# Altium schematic symbol library Chip Resistor.SchLib: 5 symbols
Pins are listed as number, name and electrical type; pins without a type are passive.

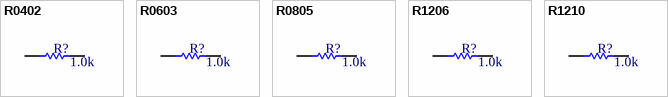
[diagram p0: symbols R0402 to R1210]

## R0402
designator R?  value 1.0k  (hidden comment: R0402)
0402 Chip Resistor - Standard; ComponentLink1URL: *
simulation model RES (Resistor)
signal-integrity model R0402
footprint 0402RES (Chip Resistor; Body 1.0 x 0.5 mm (LxW typ))
pins: 1, 2

## R0603
designator R?  value 1.0k  (hidden comment: R0603)
0603 Chip Resistor - Standard
simulation model RES (Resistor)
signal-integrity model R0603
footprint 0603RES (Chip Resistor; Body 1.6 x 0.8 mm (LxW typ))
pins: 1, 2

## R0805
designator R?  value 1.0k  (hidden comment: R0805)
0805 Chip Resistor - Standard
simulation model RES (Resistor)
signal-integrity model R0805
footprint 0805RES (Chip Resistor Body 2.0 x 1.2 mm (LxW typ))
pins: 1, 2

## R1206
designator R?  value 1.0k  (hidden comment: R1206)
1206 Chip Resistor - Standard
simulation model RES (Resistor)
signal-integrity model R1206
footprint 1206RES (Chip Resistor; Body 3.2 x 1.6 mm (LxW typ))
pins: 1, 2

## R1210
designator R?  value 1.0k  (hidden comment: R1210)
1210 Chip Resistor - Standard
simulation model RES (Resistor)
signal-integrity model R1210
footprint 1210RES (Chip Capacitor; Body 3.2 x 2.5 mm (LxW typ))
pins: 1, 2